# EAGLE library part DM3D-SF (library yantronix)
Hirose's DM3D series MicroSD card connector(Push-Pull, manual, without ejection mechanism) used on Yantronix Boards.
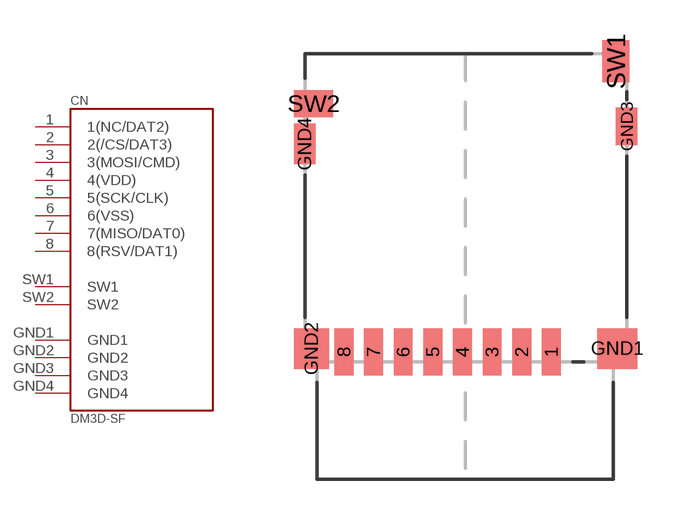
[diagram p0: symbol with the pads of MICROSD-CONN-PUSH-PULL; footprint MICROSD-CONN-PUSH-PULL]

Designator prefix CN

## DM3D-SF  [MICROSD-CONN-PUSH-PULL]
1  1(NC/DAT2)
2  2(/CS/DAT3)
3  3(MOSI/CMD)
4  4(VDD)  pwr
5  5(SCK/CLK)
6  6(VSS)  pwr
7  7(MISO/DAT0)
8  8(RSV/DAT1)
GND1  GND1  pwr
GND2  GND2  pwr
GND3  GND3  pwr
GND4  GND4  pwr
SW1  SW1
SW2  SW2

## Footprint MICROSD-CONN-PUSH-PULL (pad centres in mm)
microSD Card Connector - Push-Pull, manual, without ejection mechanism.
smd 0.7 x 1.75: 1 7.7,-0.875; 2 6.6,-0.875; 3 5.5,-0.875; 4 4.4,-0.875; 5 3.3,-0.875; 6 2.2,-0.875; 7 1.1,-0.875; 8 0,-0.875
smd 1.5 x 1.5: GND1 10.15,-0.75
smd 1.3 x 1.5: GND2 -1.2,-0.75
smd 0.8 x 1.4: GND3 10.5,7.5
smd 0.8 x 1.5: GND4 -1.45,6.85
smd 1 x 1.55: SW1 10.1,9.925
smd 1.45 x 1: SW2 -1.125,8.35